# Altium integrated library Xilinx XC1700E.IntLib: 60 symbols (part 2 of 2)
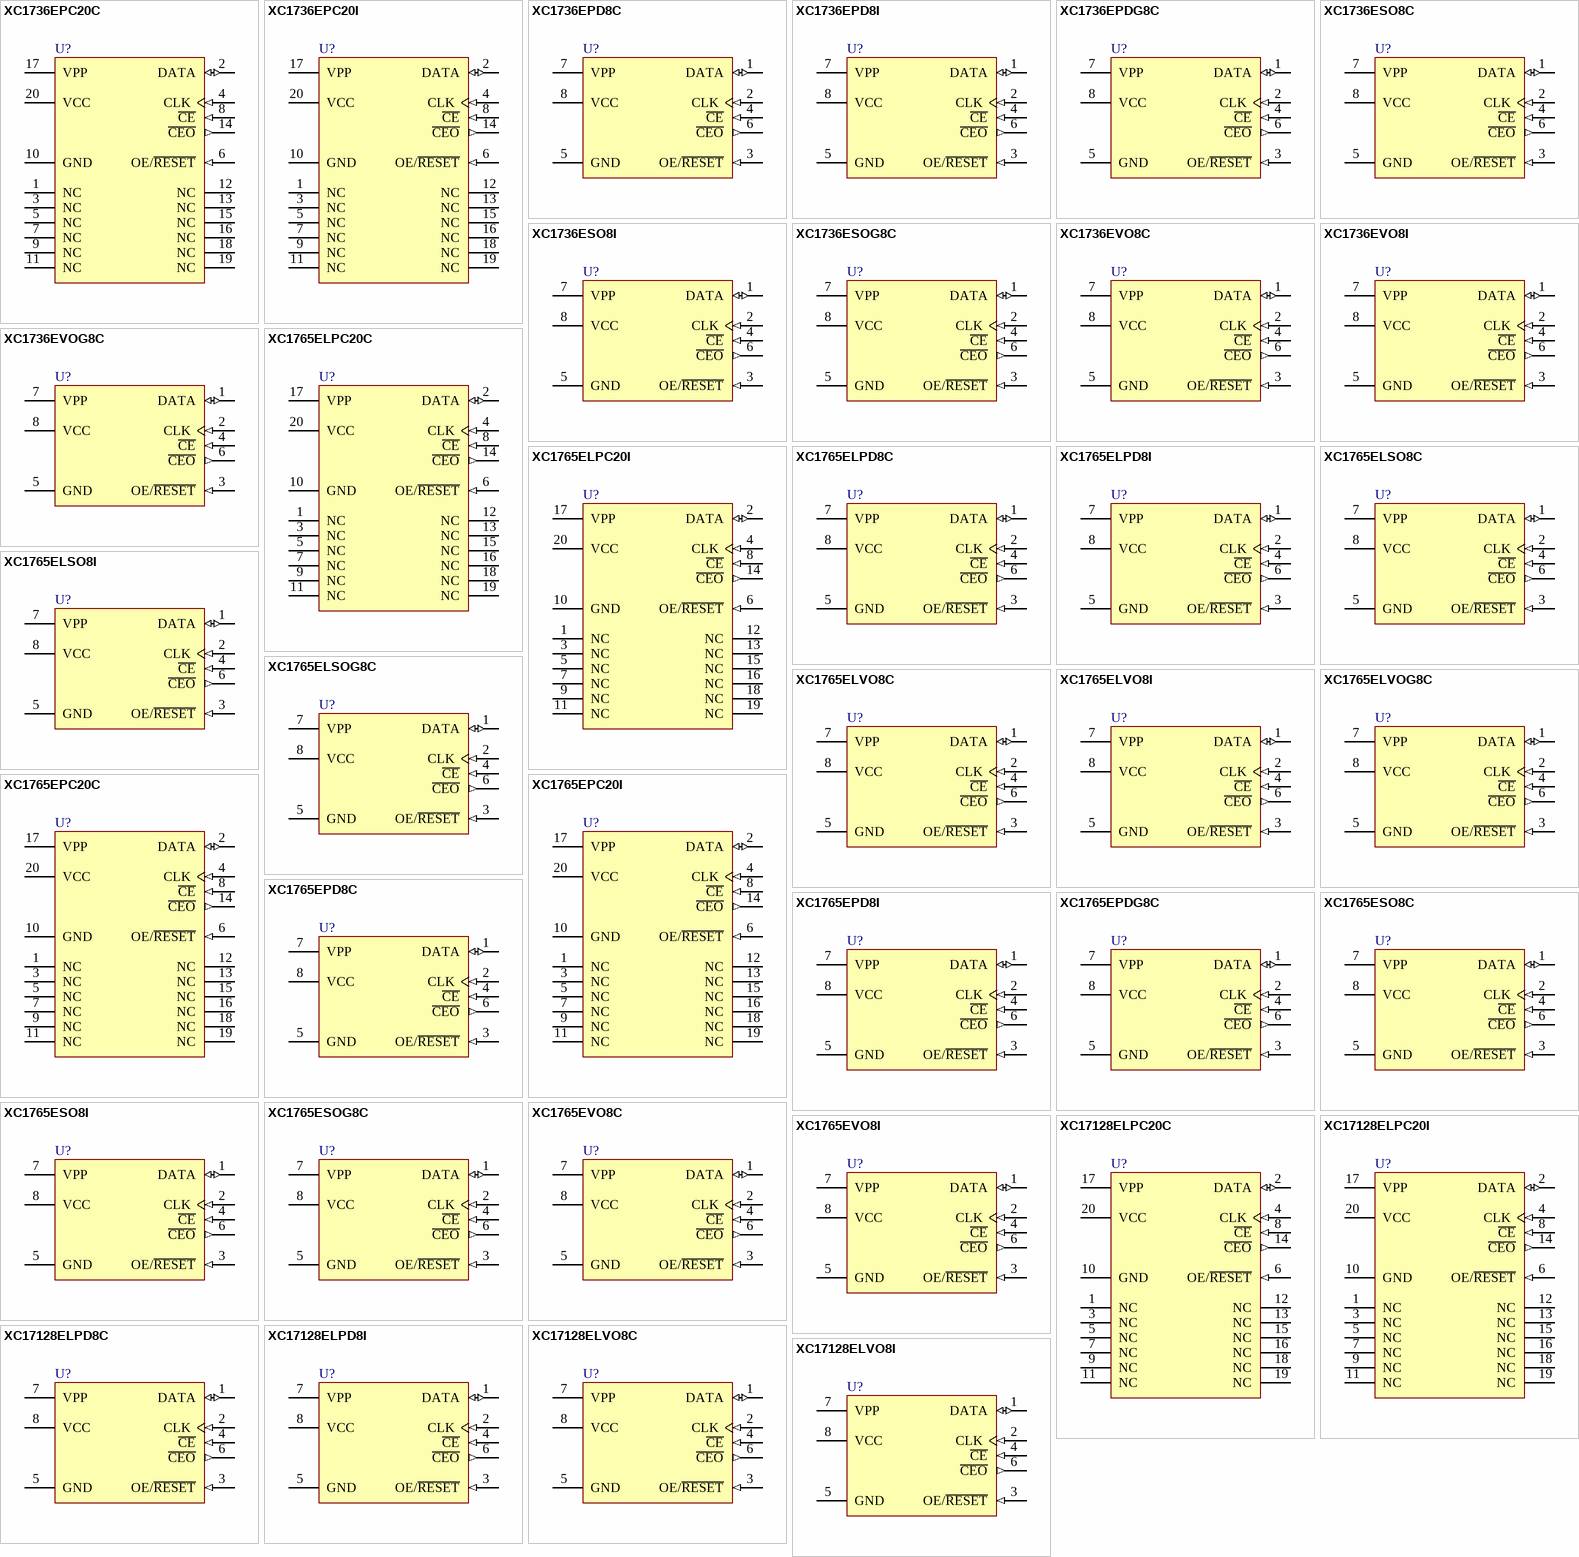
[diagram p2: symbols XC1736EPC20C to XC17128ELVO8I]

## XC17128ELPD8C
designator U?
XC1700EL Series, One-Time Programmable Configuration 3.3V PROM, 8-Pin PDIP, 128-Kilobit Density, Commercial Grade; DatasheetVersion: ver3.5, Jun-2008; PackageVersion: rev1.1, Apr-2001; PackageReference: PD8; PackageDescription: 8-Pin Plastic DIP (PD8); Code_JEDEC: MS-001-BA; ComponentLink1Description: Manufacturer URL; ComponentLink1URL: http://www.xilinx.com/; ComponentLink2Description: XC1700E/EL/L Series Datasheet; ComponentLink2URL: http://www.xilinx.com/support/documentation/data_sheets/ds027.pdf; ComponentLink3Description: PD8 Package Drawing; ComponentLink3URL: http://www.xilinx.com/support/documentation/package_specs/pd08.pdf; ComponentLink4Description: Configuration PROM Documents; ComponentLink4URL: http://www.xilinx.com/support/documentation/configuration_proms.htm
footprint PD8 (DIP, 8-Leads, Row Spacing 7.62mm, Pitch 2.54mm, Body 9.36x6.5mm)
pins: 1 DATA (io) "Data Output.", 2 CLK (in) "Clock input for internal address counter.", 3 OE/~{RESET} (in) "Output Enable/Reset.", 4 ~{CE} (in) "Chip Enable Input.", 5 GND (power) "Ground.", 6 ~{CEO} (out) "Chip Enable Output, connects to the CE input of the next PROM in the chain.", 7 VPP (power) "Programming Voltage.  Do not leave Vpp floating!", 8 VCC (power) "Positive Supply."

## XC17128ELPD8I
designator U?
XC1700EL Series, One-Time Programmable Configuration 3.3V PROM, 8-Pin PDIP, 128-Kilobit Density, Industrial Grade; DatasheetVersion: ver3.5, Jun-2008; PackageVersion: rev1.1, Apr-2001; PackageReference: PD8; PackageDescription: 8-Pin Plastic DIP (PD8); Code_JEDEC: MS-001-BA; ComponentLink1Description: Manufacturer URL; ComponentLink1URL: http://www.xilinx.com/; ComponentLink2Description: XC1700E/EL/L Series Datasheet; ComponentLink2URL: http://www.xilinx.com/support/documentation/data_sheets/ds027.pdf; ComponentLink3Description: PD8 Package Drawing; ComponentLink3URL: http://www.xilinx.com/support/documentation/package_specs/pd08.pdf; ComponentLink4Description: Configuration PROM Documents; ComponentLink4URL: http://www.xilinx.com/support/documentation/configuration_proms.htm
footprint PD8 (DIP, 8-Leads, Row Spacing 7.62mm, Pitch 2.54mm, Body 9.36x6.5mm)
pins: 1 DATA (io) "Data Output.", 2 CLK (in) "Clock input for internal address counter.", 3 OE/~{RESET} (in) "Output Enable/Reset.", 4 ~{CE} (in) "Chip Enable Input.", 5 GND (power) "Ground.", 6 ~{CEO} (out) "Chip Enable Output, connects to the CE input of the next PROM in the chain.", 7 VPP (power) "Programming Voltage.  Do not leave Vpp floating!", 8 VCC (power) "Positive Supply."

## XC17128ELVO8C
designator U?
XC1700EL Series, One-Time Programmable Configuration 3.3V PROM, 8-Pin TSOP, 128-Kilobit Density, Commercial Grade; DatasheetVersion: ver3.5, Jun-2008; PackageVersion: ver1.1, Apr-2001; PackageReference: VO8; PackageDescription: 8-Pin Thin Small Outline Package (VO8); ComponentLink1Description: Manufacturer URL; ComponentLink1URL: http://www.xilinx.com/; ComponentLink2Description: XC1700E/EL/L Series Datasheet; ComponentLink2URL: http://www.xilinx.com/support/documentation/data_sheets/ds027.pdf; ComponentLink3Description: VO8 Package Drawing; ComponentLink3URL: http://www.xilinx.com/support/documentation/package_specs/vo8.pdf; ComponentLink4Description: Configuration PROM Documents; ComponentLink4URL: http://www.xilinx.com/support/documentation/configuration_proms.htm
footprint VO8_N (SOIC, 8-Leads, Body 4.9x3.9mm, Pitch 1.27mm, IPC Medium Density)
footprint VO8_L (SOIC, 8-Leads, Body 4.9x3.9mm, Pitch 1.27mm, IPC High Density)
footprint VO8_M (SOIC, 8-Leads, Body 4.9x3.9mm, Pitch 1.27mm, IPC Low Density)
pins: 1 DATA (io) "Data Output.", 2 CLK (in) "Clock input for internal address counter.", 3 OE/~{RESET} (in) "Output Enable/Reset.", 4 ~{CE} (in) "Chip Enable Input.", 5 GND (power) "Ground.", 6 ~{CEO} (out) "Chip Enable Output, connects to the CE input of the next PROM in the chain.", 7 VPP (power) "Programming Voltage.  Do not leave Vpp floating!", 8 VCC (power) "Positive Supply."

## XC17128ELVO8I
designator U?
XC1700EL Series, One-Time Programmable Configuration 3.3V PROM, 8-Pin TSOP, 128-Kilobit Density, Industrial Grade; DatasheetVersion: ver3.5, Jun-2008; PackageVersion: ver1.1, Apr-2001; PackageReference: VO8; PackageDescription: 8-Pin Thin Small Outline Package (VO8); ComponentLink1Description: Manufacturer URL; ComponentLink1URL: http://www.xilinx.com/; ComponentLink2Description: XC1700E/EL/L Series Datasheet; ComponentLink2URL: http://www.xilinx.com/support/documentation/data_sheets/ds027.pdf; ComponentLink3Description: VO8 Package Drawing; ComponentLink3URL: http://www.xilinx.com/support/documentation/package_specs/vo8.pdf; ComponentLink4Description: Configuration PROM Documents; ComponentLink4URL: http://www.xilinx.com/support/documentation/configuration_proms.htm
footprint VO8_N (SOIC, 8-Leads, Body 4.9x3.9mm, Pitch 1.27mm, IPC Medium Density)
footprint VO8_L (SOIC, 8-Leads, Body 4.9x3.9mm, Pitch 1.27mm, IPC High Density)
footprint VO8_M (SOIC, 8-Leads, Body 4.9x3.9mm, Pitch 1.27mm, IPC Low Density)
pins: 1 DATA (io) "Data Output.", 2 CLK (in) "Clock input for internal address counter.", 3 OE/~{RESET} (in) "Output Enable/Reset.", 4 ~{CE} (in) "Chip Enable Input.", 5 GND (power) "Ground.", 6 ~{CEO} (out) "Chip Enable Output, connects to the CE input of the next PROM in the chain.", 7 VPP (power) "Programming Voltage.  Do not leave Vpp floating!", 8 VCC (power) "Positive Supply."

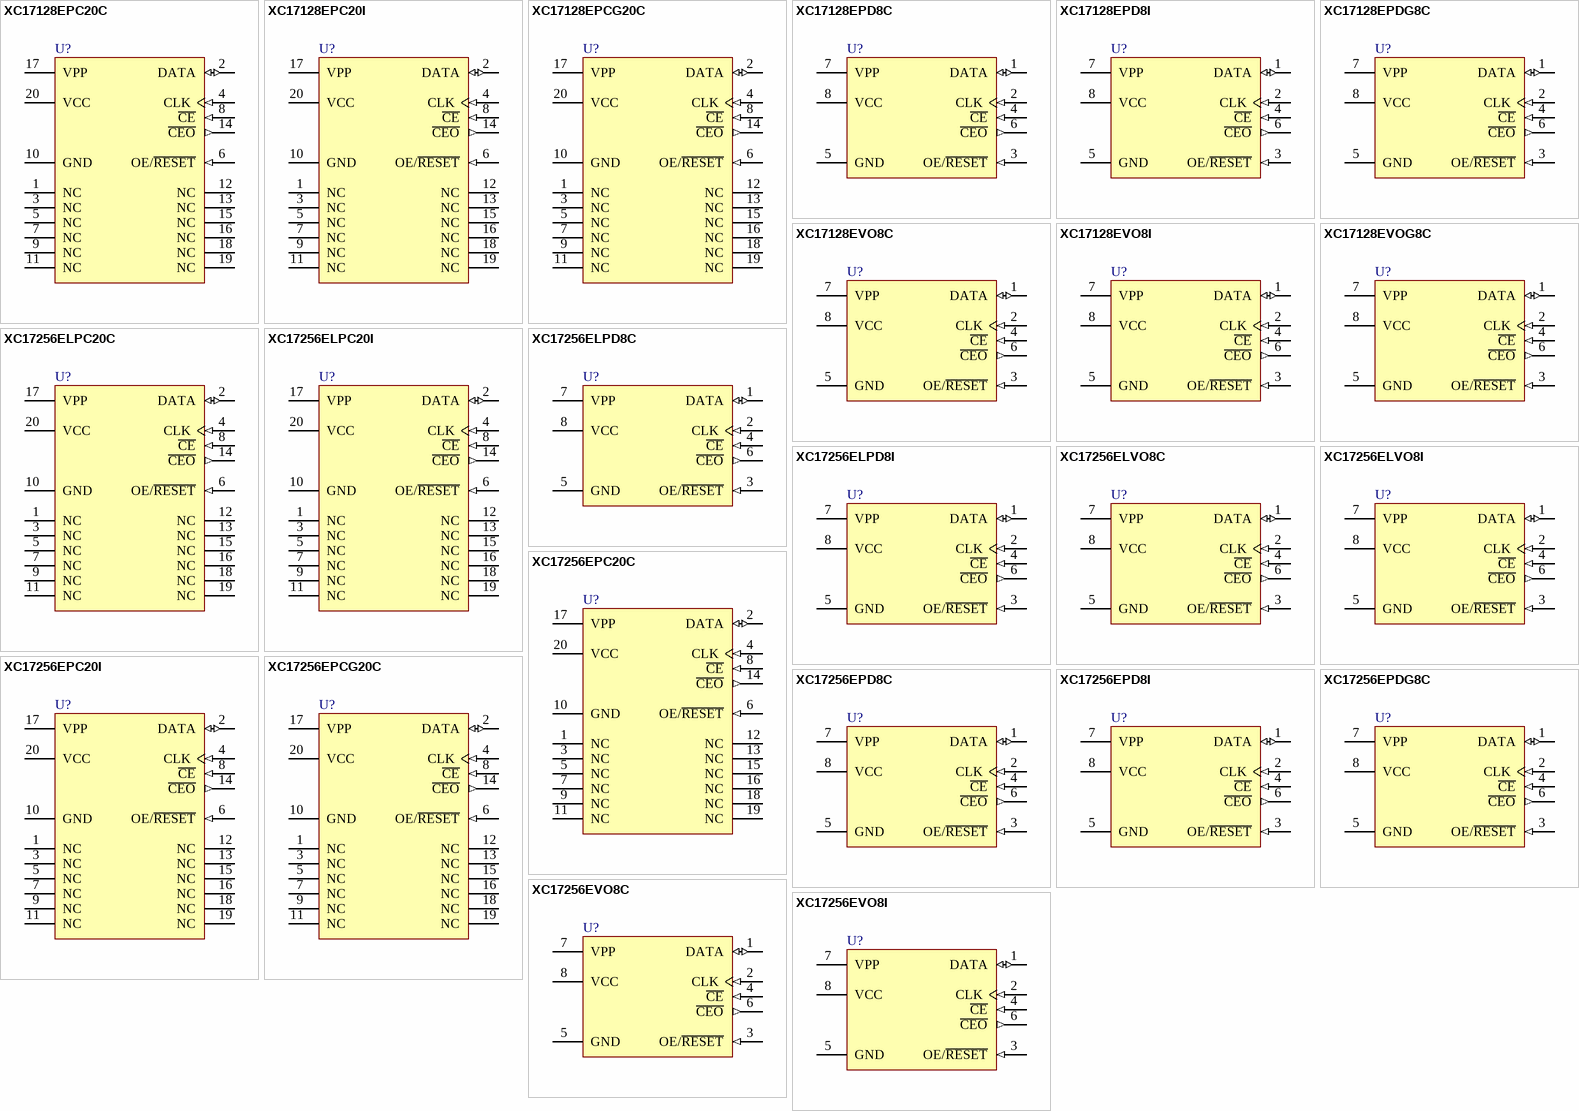
[diagram p1: symbols XC17128EPC20C to XC17256EVO8I]

## XC17128EPC20C
designator U?
XC1700E Series, One-Time Programmable Configuration 5V PROM, 20-Pin PLCC, 128-Kilobit Density, Commercial Grade; DatasheetVersion: ver3.5, Jun-2008; PackageVersion: ver1.2, Jun-2004; PackageReference: PC20; PackageDescription: 20-Pin Plastic Leaded Chip Carrier (PC20); Code_JEDEC: MS-047; Code_IPC: PLCC-20; ComponentLink1Description: Manufacturer URL; ComponentLink1URL: http://www.xilinx.com/; ComponentLink2Description: XC1700E/EL/L Series Datasheet; ComponentLink2URL: http://www.xilinx.com/support/documentation/data_sheets/ds027.pdf; ComponentLink3Description: PC20 Package Drawing; ComponentLink3URL: http://www.xilinx.com/support/documentation/package_specs/pc20.pdf; ComponentLink4Description: Configuration PROM Documents; ComponentLink4URL: http://www.xilinx.com/support/documentation/configuration_proms.htm
footprint PC20_N (Leaded Chip Carrier, 20-Leads, Body 9x9mm, Pitch 1.27mm, IPC Medium Density)
footprint PC20_L (Leaded Chip Carrier, 20-Leads, Body 9x9mm, Pitch 1.27mm, IPC High Density)
footprint PC20_M (Leaded Chip Carrier, 20-Leads, Body 9x9mm, Pitch 1.27mm, IPC Low Density)
pins: 1 NC "No Connection.", 2 DATA (io) "Data Output.", 3 NC "No Connection.", 4 CLK (in) "Clock input for internal address counter.", 5 NC "No Connection.", 6 OE/~{RESET} (in) "Output Enable/Reset.", 7 NC "No Connection.", 8 ~{CE} (in) "Chip Enable Input.", 9 NC "No Connection.", 10 GND (power) "Ground.", 11 NC "No Connection.", 12 NC "No Connection.", 13 NC "No Connection.", 14 ~{CEO} (out) "Chip Enable Output, connects to the CE input of the next PROM in the chain.", 15 NC "No Connection.", 16 NC "No Connection.", 17 VPP (power) "Programming Voltage.  Do not leave Vpp floating!", 18 NC "No Connection.", 19 NC "No Connection.", 20 VCC (power) "Positive Supply."

## XC17128EPC20I
designator U?
XC1700E Series, One-Time Programmable Configuration 5V PROM, 20-Pin PLCC, 128-Kilobit Density, Industrial Grade; DatasheetVersion: ver3.5, Jun-2008; PackageVersion: ver1.2, Jun-2004; PackageReference: PC20; PackageDescription: 20-Pin Plastic Leaded Chip Carrier (PC20); Code_JEDEC: MS-047; Code_IPC: PLCC-20; ComponentLink1Description: Manufacturer URL; ComponentLink1URL: http://www.xilinx.com/; ComponentLink2Description: XC1700E/EL/L Series Datasheet; ComponentLink2URL: http://www.xilinx.com/support/documentation/data_sheets/ds027.pdf; ComponentLink3Description: PC20 Package Drawing; ComponentLink3URL: http://www.xilinx.com/support/documentation/package_specs/pc20.pdf; ComponentLink4Description: Configuration PROM Documents; ComponentLink4URL: http://www.xilinx.com/support/documentation/configuration_proms.htm
footprint PC20_N (Leaded Chip Carrier, 20-Leads, Body 9x9mm, Pitch 1.27mm, IPC Medium Density)
footprint PC20_L (Leaded Chip Carrier, 20-Leads, Body 9x9mm, Pitch 1.27mm, IPC High Density)
footprint PC20_M (Leaded Chip Carrier, 20-Leads, Body 9x9mm, Pitch 1.27mm, IPC Low Density)
pins: 1 NC "No Connection.", 2 DATA (io) "Data Output.", 3 NC "No Connection.", 4 CLK (in) "Clock input for internal address counter.", 5 NC "No Connection.", 6 OE/~{RESET} (in) "Output Enable/Reset.", 7 NC "No Connection.", 8 ~{CE} (in) "Chip Enable Input.", 9 NC "No Connection.", 10 GND (power) "Ground.", 11 NC "No Connection.", 12 NC "No Connection.", 13 NC "No Connection.", 14 ~{CEO} (out) "Chip Enable Output, connects to the CE input of the next PROM in the chain.", 15 NC "No Connection.", 16 NC "No Connection.", 17 VPP (power) "Programming Voltage.  Do not leave Vpp floating!", 18 NC "No Connection.", 19 NC "No Connection.", 20 VCC (power) "Positive Supply."

## XC17128EPCG20C
designator U?
XC1700E Series, One-Time Programmable Configuration 5V PROM, 20-Pin PLCC, 128-Kilobit Density, Commercial Grade, Pb-Free; DatasheetVersion: ver3.5, Jun-2008; PackageVersion: ver1.2, Jun-2004; PackageReference: PCG20; PackageDescription: 20-Pin Plastic Leaded Chip Carrier (PCG20) - Pb-Free; Code_JEDEC: MS-047; Code_IPC: PLCC-20; ComponentLink1Description: Manufacturer URL; ComponentLink1URL: http://www.xilinx.com/; ComponentLink2Description: XC1700E/EL/L Series Datasheet; ComponentLink2URL: http://www.xilinx.com/support/documentation/data_sheets/ds027.pdf; ComponentLink3Description: PCG20 Package Drawing; ComponentLink3URL: http://www.xilinx.com/support/documentation/package_specs/pc20.pdf; ComponentLink4Description: Configuration PROM Documents; ComponentLink4URL: http://www.xilinx.com/support/documentation/configuration_proms.htm
footprint PCG20_N (Leaded Chip Carrier, 20-Leads, Body 9x9mm, Pitch 1.27mm, IPC Medium Density)
footprint PCG20_L (Leaded Chip Carrier, 20-Leads, Body 9x9mm, Pitch 1.27mm, IPC High Density)
footprint PCG20_M (Leaded Chip Carrier, 20-Leads, Body 9x9mm, Pitch 1.27mm, IPC Low Density)
pins: 1 NC "No Connection.", 2 DATA (io) "Data Output.", 3 NC "No Connection.", 4 CLK (in) "Clock input for internal address counter.", 5 NC "No Connection.", 6 OE/~{RESET} (in) "Output Enable/Reset.", 7 NC "No Connection.", 8 ~{CE} (in) "Chip Enable Input.", 9 NC "No Connection.", 10 GND (power) "Ground.", 11 NC "No Connection.", 12 NC "No Connection.", 13 NC "No Connection.", 14 ~{CEO} (out) "Chip Enable Output, connects to the CE input of the next PROM in the chain.", 15 NC "No Connection.", 16 NC "No Connection.", 17 VPP (power) "Programming Voltage.  Do not leave Vpp floating!", 18 NC "No Connection.", 19 NC "No Connection.", 20 VCC (power) "Positive Supply."

## XC17128EPD8C
designator U?
XC1700E Series, One-Time Programmable Configuration 5V PROM, 8-Pin PDIP, 128-Kilobit Density, Commercial Grade; DatasheetVersion: ver3.5, Jun-2008; PackageVersion: rev1.1, Apr-2001; PackageReference: PD8; PackageDescription: 8-Pin Plastic DIP (PD8); Code_JEDEC: MS-001-BA; ComponentLink1Description: Manufacturer URL; ComponentLink1URL: http://www.xilinx.com/; ComponentLink2Description: XC1700E/EL/L Series Datasheet; ComponentLink2URL: http://www.xilinx.com/support/documentation/data_sheets/ds027.pdf; ComponentLink3Description: PD8 Package Drawing; ComponentLink3URL: http://www.xilinx.com/support/documentation/package_specs/pd08.pdf; ComponentLink4Description: Configuration PROM Documents; ComponentLink4URL: http://www.xilinx.com/support/documentation/configuration_proms.htm
footprint PD8 (DIP, 8-Leads, Row Spacing 7.62mm, Pitch 2.54mm, Body 9.36x6.5mm)
pins: 1 DATA (io) "Data Output.", 2 CLK (in) "Clock input for internal address counter.", 3 OE/~{RESET} (in) "Output Enable/Reset.", 4 ~{CE} (in) "Chip Enable Input.", 5 GND (power) "Ground.", 6 ~{CEO} (out) "Chip Enable Output, connects to the CE input of the next PROM in the chain.", 7 VPP (power) "Programming Voltage.  Do not leave Vpp floating!", 8 VCC (power) "Positive Supply."

## XC17128EPD8I
designator U?
XC1700E Series, One-Time Programmable Configuration 5V PROM, 8-Pin PDIP, 128-Kilobit Density, Industrial Grade; DatasheetVersion: ver3.5, Jun-2008; PackageVersion: rev1.1, Apr-2001; PackageReference: PD8; PackageDescription: 8-Pin Plastic DIP (PD8); Code_JEDEC: MS-001-BA; ComponentLink1Description: Manufacturer URL; ComponentLink1URL: http://www.xilinx.com/; ComponentLink2Description: XC1700E/EL/L Series Datasheet; ComponentLink2URL: http://www.xilinx.com/support/documentation/data_sheets/ds027.pdf; ComponentLink3Description: PD8 Package Drawing; ComponentLink3URL: http://www.xilinx.com/support/documentation/package_specs/pd08.pdf; ComponentLink4Description: Configuration PROM Documents; ComponentLink4URL: http://www.xilinx.com/support/documentation/configuration_proms.htm
footprint PD8 (DIP, 8-Leads, Row Spacing 7.62mm, Pitch 2.54mm, Body 9.36x6.5mm)
pins: 1 DATA (io) "Data Output.", 2 CLK (in) "Clock input for internal address counter.", 3 OE/~{RESET} (in) "Output Enable/Reset.", 4 ~{CE} (in) "Chip Enable Input.", 5 GND (power) "Ground.", 6 ~{CEO} (out) "Chip Enable Output, connects to the CE input of the next PROM in the chain.", 7 VPP (power) "Programming Voltage.  Do not leave Vpp floating!", 8 VCC (power) "Positive Supply."

## XC17128EPDG8C
designator U?
XC1700E Series, One-Time Programmable Configuration 5V PROM, 8-Pin PDIP, 128-Kilobit Density, Commercial Grade, Pb-Free; DatasheetVersion: ver3.5, Jun-2008; PackageVersion: rev1.1, Apr-2001; PackageReference: PDG8; PackageDescription: 8-Pin Plastic DIP (PDG8), Pb-Free; Code_JEDEC: MS-001-BA; ComponentLink1Description: Manufacturer URL; ComponentLink1URL: http://www.xilinx.com/; ComponentLink2Description: XC1700E/EL/L Series Datasheet; ComponentLink2URL: http://www.xilinx.com/support/documentation/data_sheets/ds027.pdf; ComponentLink3Description: PDG8 Package Drawing; ComponentLink3URL: http://www.xilinx.com/support/documentation/package_specs/pd08.pdf; ComponentLink4Description: Configuration PROM Documents; ComponentLink4URL: http://www.xilinx.com/support/documentation/configuration_proms.htm
footprint PDG8 (DIP, 8-Leads, Row Spacing 7.62mm, Pitch 2.54mm, Body 9.36x6.5mm)
pins: 1 DATA (io) "Data Output.", 2 CLK (in) "Clock input for internal address counter.", 3 OE/~{RESET} (in) "Output Enable/Reset.", 4 ~{CE} (in) "Chip Enable Input.", 5 GND (power) "Ground.", 6 ~{CEO} (out) "Chip Enable Output, connects to the CE input of the next PROM in the chain.", 7 VPP (power) "Programming Voltage.  Do not leave Vpp floating!", 8 VCC (power) "Positive Supply."

## XC17128EVO8C
designator U?
XC1700E Series, One-Time Programmable Configuration 5V PROM, 8-Pin TSOP, 128-Kilobit Density, Commercial Grade; DatasheetVersion: ver3.5, Jun-2008; PackageVersion: ver1.1, Apr-2001; PackageReference: VO8; PackageDescription: 8-Pin Thin Small Outline Package (VO8); ComponentLink1Description: Manufacturer URL; ComponentLink1URL: http://www.xilinx.com/; ComponentLink2Description: XC1700E/EL/L Series Datasheet; ComponentLink2URL: http://www.xilinx.com/support/documentation/data_sheets/ds027.pdf; ComponentLink3Description: VO8 Package Drawing; ComponentLink3URL: http://www.xilinx.com/support/documentation/package_specs/vo8.pdf; ComponentLink4Description: Configuration PROM Documents; ComponentLink4URL: http://www.xilinx.com/support/documentation/configuration_proms.htm
footprint VO8_N (SOIC, 8-Leads, Body 4.9x3.9mm, Pitch 1.27mm, IPC Medium Density)
footprint VO8_L (SOIC, 8-Leads, Body 4.9x3.9mm, Pitch 1.27mm, IPC High Density)
footprint VO8_M (SOIC, 8-Leads, Body 4.9x3.9mm, Pitch 1.27mm, IPC Low Density)
pins: 1 DATA (io) "Data Output.", 2 CLK (in) "Clock input for internal address counter.", 3 OE/~{RESET} (in) "Output Enable/Reset.", 4 ~{CE} (in) "Chip Enable Input.", 5 GND (power) "Ground.", 6 ~{CEO} (out) "Chip Enable Output, connects to the CE input of the next PROM in the chain.", 7 VPP (power) "Programming Voltage.  Do not leave Vpp floating!", 8 VCC (power) "Positive Supply."

## XC17128EVO8I
designator U?
XC1700E Series, One-Time Programmable Configuration 5V PROM, 8-Pin TSOP, 128-Kilobit Density, Industrial Grade; DatasheetVersion: ver3.5, Jun-2008; PackageVersion: ver1.1, Apr-2001; PackageReference: VO8; PackageDescription: 8-Pin Thin Small Outline Package (VO8); ComponentLink1Description: Manufacturer URL; ComponentLink1URL: http://www.xilinx.com/; ComponentLink2Description: XC1700E/EL/L Series Datasheet; ComponentLink2URL: http://www.xilinx.com/support/documentation/data_sheets/ds027.pdf; ComponentLink3Description: VO8 Package Drawing; ComponentLink3URL: http://www.xilinx.com/support/documentation/package_specs/vo8.pdf; ComponentLink4Description: Configuration PROM Documents; ComponentLink4URL: http://www.xilinx.com/support/documentation/configuration_proms.htm
footprint VO8_N (SOIC, 8-Leads, Body 4.9x3.9mm, Pitch 1.27mm, IPC Medium Density)
footprint VO8_L (SOIC, 8-Leads, Body 4.9x3.9mm, Pitch 1.27mm, IPC High Density)
footprint VO8_M (SOIC, 8-Leads, Body 4.9x3.9mm, Pitch 1.27mm, IPC Low Density)
pins: 1 DATA (io) "Data Output.", 2 CLK (in) "Clock input for internal address counter.", 3 OE/~{RESET} (in) "Output Enable/Reset.", 4 ~{CE} (in) "Chip Enable Input.", 5 GND (power) "Ground.", 6 ~{CEO} (out) "Chip Enable Output, connects to the CE input of the next PROM in the chain.", 7 VPP (power) "Programming Voltage.  Do not leave Vpp floating!", 8 VCC (power) "Positive Supply."

## XC17128EVOG8C
designator U?
XC1700E Series, One-Time Programmable Configuration 5V PROM, 8-Pin TSOP, 128-Kilobit Density, Commercial Grade, Pb-Free; DatasheetVersion: ver3.5, Jun-2008; PackageVersion: ver1.1, Apr-2001; PackageReference: VOG8; PackageDescription: 8-Pin Thin Small Outline Package (VOG8) - Pb-Free; ComponentLink1Description: Manufacturer URL; ComponentLink1URL: http://www.xilinx.com/; ComponentLink2Description: XC1700E/EL/L Series Datasheet; ComponentLink2URL: http://www.xilinx.com/support/documentation/data_sheets/ds027.pdf; ComponentLink3Description: VOG8 Package Drawing; ComponentLink3URL: http://www.xilinx.com/support/documentation/package_specs/vo8.pdf; ComponentLink4Description: Configuration PROM Documents; ComponentLink4URL: http://www.xilinx.com/support/documentation/configuration_proms.htm
footprint VOG8_N (SOIC, 8-Leads, Body 4.9x3.9mm, Pitch 1.27mm, IPC Medium Density)
footprint VOG8_L (SOIC, 8-Leads, Body 4.9x3.9mm, Pitch 1.27mm, IPC High Density)
footprint VOG8_M (SOIC, 8-Leads, Body 4.9x3.9mm, Pitch 1.27mm, IPC Low Density)
pins: 1 DATA (io) "Data Output.", 2 CLK (in) "Clock input for internal address counter.", 3 OE/~{RESET} (in) "Output Enable/Reset.", 4 ~{CE} (in) "Chip Enable Input.", 5 GND (power) "Ground.", 6 ~{CEO} (out) "Chip Enable Output, connects to the CE input of the next PROM in the chain.", 7 VPP (power) "Programming Voltage.  Do not leave Vpp floating!", 8 VCC (power) "Positive Supply."

## XC17256ELPC20C
designator U?
XC1700EL Series, One-Time Programmable Configuration 3.3V PROM, 20-Pin PLCC, 256-Kilobit Density, Commercial Grade; DatasheetVersion: ver3.5, Jun-2008; PackageVersion: ver1.2, Jun-2004; PackageReference: PC20; PackageDescription: 20-Pin Plastic Leaded Chip Carrier (PC20); Code_JEDEC: MS-047; Code_IPC: PLCC-20; ComponentLink1Description: Manufacturer URL; ComponentLink1URL: http://www.xilinx.com/; ComponentLink2Description: XC1700E/EL/L Series Datasheet; ComponentLink2URL: http://www.xilinx.com/support/documentation/data_sheets/ds027.pdf; ComponentLink3Description: PC20 Package Drawing; ComponentLink3URL: http://www.xilinx.com/support/documentation/package_specs/pc20.pdf; ComponentLink4Description: Configuration PROM Documents; ComponentLink4URL: http://www.xilinx.com/support/documentation/configuration_proms.htm
footprint PC20_N (Leaded Chip Carrier, 20-Leads, Body 9x9mm, Pitch 1.27mm, IPC Medium Density)
footprint PC20_L (Leaded Chip Carrier, 20-Leads, Body 9x9mm, Pitch 1.27mm, IPC High Density)
footprint PC20_M (Leaded Chip Carrier, 20-Leads, Body 9x9mm, Pitch 1.27mm, IPC Low Density)
pins: 1 NC "No Connection.", 2 DATA (io) "Data Output.", 3 NC "No Connection.", 4 CLK (in) "Clock input for internal address counter.", 5 NC "No Connection.", 6 OE/~{RESET} (in) "Output Enable/Reset.", 7 NC "No Connection.", 8 ~{CE} (in) "Chip Enable Input.", 9 NC "No Connection.", 10 GND (power) "Ground.", 11 NC "No Connection.", 12 NC "No Connection.", 13 NC "No Connection.", 14 ~{CEO} (out) "Chip Enable Output, connects to the CE input of the next PROM in the chain.", 15 NC "No Connection.", 16 NC "No Connection.", 17 VPP (power) "Programming Voltage.  Do not leave Vpp floating!", 18 NC "No Connection.", 19 NC "No Connection.", 20 VCC (power) "Positive Supply."

## XC17256ELPC20I
designator U?
XC1700EL Series, One-Time Programmable Configuration 3.3V PROM, 20-Pin PLCC, 256-Kilobit Density, Industrial Grade; DatasheetVersion: ver3.5, Jun-2008; PackageVersion: ver1.2, Jun-2004; PackageReference: PC20; PackageDescription: 20-Pin Plastic Leaded Chip Carrier (PC20); Code_JEDEC: MS-047; Code_IPC: PLCC-20; ComponentLink1Description: Manufacturer URL; ComponentLink1URL: http://www.xilinx.com/; ComponentLink2Description: XC1700E/EL/L Series Datasheet; ComponentLink2URL: http://www.xilinx.com/support/documentation/data_sheets/ds027.pdf; ComponentLink3Description: PC20 Package Drawing; ComponentLink3URL: http://www.xilinx.com/support/documentation/package_specs/pc20.pdf; ComponentLink4Description: Configuration PROM Documents; ComponentLink4URL: http://www.xilinx.com/support/documentation/configuration_proms.htm
footprint PC20_N (Leaded Chip Carrier, 20-Leads, Body 9x9mm, Pitch 1.27mm, IPC Medium Density)
footprint PC20_L (Leaded Chip Carrier, 20-Leads, Body 9x9mm, Pitch 1.27mm, IPC High Density)
footprint PC20_M (Leaded Chip Carrier, 20-Leads, Body 9x9mm, Pitch 1.27mm, IPC Low Density)
pins: 1 NC "No Connection.", 2 DATA (io) "Data Output.", 3 NC "No Connection.", 4 CLK (in) "Clock input for internal address counter.", 5 NC "No Connection.", 6 OE/~{RESET} (in) "Output Enable/Reset.", 7 NC "No Connection.", 8 ~{CE} (in) "Chip Enable Input.", 9 NC "No Connection.", 10 GND (power) "Ground.", 11 NC "No Connection.", 12 NC "No Connection.", 13 NC "No Connection.", 14 ~{CEO} (out) "Chip Enable Output, connects to the CE input of the next PROM in the chain.", 15 NC "No Connection.", 16 NC "No Connection.", 17 VPP (power) "Programming Voltage.  Do not leave Vpp floating!", 18 NC "No Connection.", 19 NC "No Connection.", 20 VCC (power) "Positive Supply."

## XC17256ELPD8C
designator U?
XC1700EL Series, One-Time Programmable Configuration 3.3V PROM, 8-Pin PDIP, 256-Kilobit Density, Commercial Grade; DatasheetVersion: ver3.5, Jun-2008; PackageVersion: rev1.1, Apr-2001; PackageReference: PD8; PackageDescription: 8-Pin Plastic DIP (PD8); Code_JEDEC: MS-001-BA; ComponentLink1Description: Manufacturer URL; ComponentLink1URL: http://www.xilinx.com/; ComponentLink2Description: XC1700E/EL/L Series Datasheet; ComponentLink2URL: http://www.xilinx.com/support/documentation/data_sheets/ds027.pdf; ComponentLink3Description: PD8 Package Drawing; ComponentLink3URL: http://www.xilinx.com/support/documentation/package_specs/pd08.pdf; ComponentLink4Description: Configuration PROM Documents; ComponentLink4URL: http://www.xilinx.com/support/documentation/configuration_proms.htm
footprint PD8 (DIP, 8-Leads, Row Spacing 7.62mm, Pitch 2.54mm, Body 9.36x6.5mm)
pins: 1 DATA (io) "Data Output.", 2 CLK (in) "Clock input for internal address counter.", 3 OE/~{RESET} (in) "Output Enable/Reset.", 4 ~{CE} (in) "Chip Enable Input.", 5 GND (power) "Ground.", 6 ~{CEO} (out) "Chip Enable Output, connects to the CE input of the next PROM in the chain.", 7 VPP (power) "Programming Voltage.  Do not leave Vpp floating!", 8 VCC (power) "Positive Supply."

## XC17256ELPD8I
designator U?
XC1700EL Series, One-Time Programmable Configuration 3.3V PROM, 8-Pin PDIP, 256-Kilobit Density, Industrial Grade; DatasheetVersion: ver3.5, Jun-2008; PackageVersion: rev1.1, Apr-2001; PackageReference: PD8; PackageDescription: 8-Pin Plastic DIP (PD8); Code_JEDEC: MS-001-BA; ComponentLink1Description: Manufacturer URL; ComponentLink1URL: http://www.xilinx.com/; ComponentLink2Description: XC1700E/EL/L Series Datasheet; ComponentLink2URL: http://www.xilinx.com/support/documentation/data_sheets/ds027.pdf; ComponentLink3Description: PD8 Package Drawing; ComponentLink3URL: http://www.xilinx.com/support/documentation/package_specs/pd08.pdf; ComponentLink4Description: Configuration PROM Documents; ComponentLink4URL: http://www.xilinx.com/support/documentation/configuration_proms.htm
footprint PD8 (DIP, 8-Leads, Row Spacing 7.62mm, Pitch 2.54mm, Body 9.36x6.5mm)
pins: 1 DATA (io) "Data Output.", 2 CLK (in) "Clock input for internal address counter.", 3 OE/~{RESET} (in) "Output Enable/Reset.", 4 ~{CE} (in) "Chip Enable Input.", 5 GND (power) "Ground.", 6 ~{CEO} (out) "Chip Enable Output, connects to the CE input of the next PROM in the chain.", 7 VPP (power) "Programming Voltage.  Do not leave Vpp floating!", 8 VCC (power) "Positive Supply."

## XC17256ELVO8C
designator U?
XC1700EL Series, One-Time Programmable Configuration 3.3V PROM, 8-Pin TSOP, 256-Kilobit Density, Commercial Grade; DatasheetVersion: ver3.5, Jun-2008; PackageVersion: ver1.1, Apr-2001; PackageReference: VO8; PackageDescription: 8-Pin Thin Small Outline Package (VO8); ComponentLink1Description: Manufacturer URL; ComponentLink1URL: http://www.xilinx.com/; ComponentLink2Description: XC1700E/EL/L Series Datasheet; ComponentLink2URL: http://www.xilinx.com/support/documentation/data_sheets/ds027.pdf; ComponentLink3Description: VO8 Package Drawing; ComponentLink3URL: http://www.xilinx.com/support/documentation/package_specs/vo8.pdf; ComponentLink4Description: Configuration PROM Documents; ComponentLink4URL: http://www.xilinx.com/support/documentation/configuration_proms.htm
footprint VO8_N (SOIC, 8-Leads, Body 4.9x3.9mm, Pitch 1.27mm, IPC Medium Density)
footprint VO8_L (SOIC, 8-Leads, Body 4.9x3.9mm, Pitch 1.27mm, IPC High Density)
footprint VO8_M (SOIC, 8-Leads, Body 4.9x3.9mm, Pitch 1.27mm, IPC Low Density)
pins: 1 DATA (io) "Data Output.", 2 CLK (in) "Clock input for internal address counter.", 3 OE/~{RESET} (in) "Output Enable/Reset.", 4 ~{CE} (in) "Chip Enable Input.", 5 GND (power) "Ground.", 6 ~{CEO} (out) "Chip Enable Output, connects to the CE input of the next PROM in the chain.", 7 VPP (power) "Programming Voltage.  Do not leave Vpp floating!", 8 VCC (power) "Positive Supply."

## XC17256ELVO8I
designator U?
XC1700EL Series, One-Time Programmable Configuration 3.3V PROM, 8-Pin TSOP, 256-Kilobit Density, Industrial Grade; DatasheetVersion: ver3.5, Jun-2008; PackageVersion: ver1.1, Apr-2001; PackageReference: VO8; PackageDescription: 8-Pin Thin Small Outline Package (VO8); ComponentLink1Description: Manufacturer URL; ComponentLink1URL: http://www.xilinx.com/; ComponentLink2Description: XC1700E/EL/L Series Datasheet; ComponentLink2URL: http://www.xilinx.com/support/documentation/data_sheets/ds027.pdf; ComponentLink3Description: VO8 Package Drawing; ComponentLink3URL: http://www.xilinx.com/support/documentation/package_specs/vo8.pdf; ComponentLink4Description: Configuration PROM Documents; ComponentLink4URL: http://www.xilinx.com/support/documentation/configuration_proms.htm
footprint VO8_N (SOIC, 8-Leads, Body 4.9x3.9mm, Pitch 1.27mm, IPC Medium Density)
footprint VO8_L (SOIC, 8-Leads, Body 4.9x3.9mm, Pitch 1.27mm, IPC High Density)
footprint VO8_M (SOIC, 8-Leads, Body 4.9x3.9mm, Pitch 1.27mm, IPC Low Density)
pins: 1 DATA (io) "Data Output.", 2 CLK (in) "Clock input for internal address counter.", 3 OE/~{RESET} (in) "Output Enable/Reset.", 4 ~{CE} (in) "Chip Enable Input.", 5 GND (power) "Ground.", 6 ~{CEO} (out) "Chip Enable Output, connects to the CE input of the next PROM in the chain.", 7 VPP (power) "Programming Voltage.  Do not leave Vpp floating!", 8 VCC (power) "Positive Supply."

## XC17256EPC20C
designator U?
XC1700E Series, One-Time Programmable Configuration 5V PROM, 20-Pin PLCC, 256-Kilobit Density, Commercial Grade; DatasheetVersion: ver3.5, Jun-2008; PackageVersion: ver1.2, Jun-2004; PackageReference: PC20; PackageDescription: 20-Pin Plastic Leaded Chip Carrier (PC20); Code_JEDEC: MS-047; Code_IPC: PLCC-20; ComponentLink1Description: Manufacturer URL; ComponentLink1URL: http://www.xilinx.com/; ComponentLink2Description: XC1700E/EL/L Series Datasheet; ComponentLink2URL: http://www.xilinx.com/support/documentation/data_sheets/ds027.pdf; ComponentLink3Description: PC20 Package Drawing; ComponentLink3URL: http://www.xilinx.com/support/documentation/package_specs/pc20.pdf; ComponentLink4Description: Configuration PROM Documents; ComponentLink4URL: http://www.xilinx.com/support/documentation/configuration_proms.htm
footprint PC20_N (Leaded Chip Carrier, 20-Leads, Body 9x9mm, Pitch 1.27mm, IPC Medium Density)
footprint PC20_L (Leaded Chip Carrier, 20-Leads, Body 9x9mm, Pitch 1.27mm, IPC High Density)
footprint PC20_M (Leaded Chip Carrier, 20-Leads, Body 9x9mm, Pitch 1.27mm, IPC Low Density)
pins: 1 NC "No Connection.", 2 DATA (io) "Data Output.", 3 NC "No Connection.", 4 CLK (in) "Clock input for internal address counter.", 5 NC "No Connection.", 6 OE/~{RESET} (in) "Output Enable/Reset.", 7 NC "No Connection.", 8 ~{CE} (in) "Chip Enable Input.", 9 NC "No Connection.", 10 GND (power) "Ground.", 11 NC "No Connection.", 12 NC "No Connection.", 13 NC "No Connection.", 14 ~{CEO} (out) "Chip Enable Output, connects to the CE input of the next PROM in the chain.", 15 NC "No Connection.", 16 NC "No Connection.", 17 VPP (power) "Programming Voltage.  Do not leave Vpp floating!", 18 NC "No Connection.", 19 NC "No Connection.", 20 VCC (power) "Positive Supply."

## XC17256EPC20I
designator U?
XC1700E Series, One-Time Programmable Configuration 5V PROM, 20-Pin PLCC, 256-Kilobit Density, Industrial Grade; DatasheetVersion: ver3.5, Jun-2008; PackageVersion: ver1.2, Jun-2004; PackageReference: PC20; PackageDescription: 20-Pin Plastic Leaded Chip Carrier (PC20); Code_JEDEC: MS-047; Code_IPC: PLCC-20; ComponentLink1Description: Manufacturer URL; ComponentLink1URL: http://www.xilinx.com/; ComponentLink2Description: XC1700E/EL/L Series Datasheet; ComponentLink2URL: http://www.xilinx.com/support/documentation/data_sheets/ds027.pdf; ComponentLink3Description: PC20 Package Drawing; ComponentLink3URL: http://www.xilinx.com/support/documentation/package_specs/pc20.pdf; ComponentLink4Description: Configuration PROM Documents; ComponentLink4URL: http://www.xilinx.com/support/documentation/configuration_proms.htm
footprint PC20_N (Leaded Chip Carrier, 20-Leads, Body 9x9mm, Pitch 1.27mm, IPC Medium Density)
footprint PC20_L (Leaded Chip Carrier, 20-Leads, Body 9x9mm, Pitch 1.27mm, IPC High Density)
footprint PC20_M (Leaded Chip Carrier, 20-Leads, Body 9x9mm, Pitch 1.27mm, IPC Low Density)
pins: 1 NC "No Connection.", 2 DATA (io) "Data Output.", 3 NC "No Connection.", 4 CLK (in) "Clock input for internal address counter.", 5 NC "No Connection.", 6 OE/~{RESET} (in) "Output Enable/Reset.", 7 NC "No Connection.", 8 ~{CE} (in) "Chip Enable Input.", 9 NC "No Connection.", 10 GND (power) "Ground.", 11 NC "No Connection.", 12 NC "No Connection.", 13 NC "No Connection.", 14 ~{CEO} (out) "Chip Enable Output, connects to the CE input of the next PROM in the chain.", 15 NC "No Connection.", 16 NC "No Connection.", 17 VPP (power) "Programming Voltage.  Do not leave Vpp floating!", 18 NC "No Connection.", 19 NC "No Connection.", 20 VCC (power) "Positive Supply."

## XC17256EPCG20C
designator U?
XC1700E Series, One-Time Programmable Configuration 5V PROM, 28-Pin PLCC, 256-Kilobit Density, Commercial Grade, Pb-Free; DatasheetVersion: ver3.5, Jun-2008; PackageVersion: ver1.2, Jun-2004; PackageReference: PCG20; PackageDescription: 20-Pin Plastic Leaded Chip Carrier (PCG20) - Pb-Free; Code_JEDEC: MS-047; Code_IPC: PLCC-20; ComponentLink1Description: Manufacturer URL; ComponentLink1URL: http://www.xilinx.com/; ComponentLink2Description: XC1700E/EL/L Series Datasheet; ComponentLink2URL: http://www.xilinx.com/support/documentation/data_sheets/ds027.pdf; ComponentLink3Description: PCG20 Package Drawing; ComponentLink3URL: http://www.xilinx.com/support/documentation/package_specs/pc20.pdf; ComponentLink4Description: Configuration PROM Documents; ComponentLink4URL: http://www.xilinx.com/support/documentation/configuration_proms.htm
footprint PCG20_N (Leaded Chip Carrier, 20-Leads, Body 9x9mm, Pitch 1.27mm, IPC Medium Density)
footprint PCG20_L (Leaded Chip Carrier, 20-Leads, Body 9x9mm, Pitch 1.27mm, IPC High Density)
footprint PCG20_M (Leaded Chip Carrier, 20-Leads, Body 9x9mm, Pitch 1.27mm, IPC Low Density)
pins: 1 NC "No Connection.", 2 DATA (io) "Data Output.", 3 NC "No Connection.", 4 CLK (in) "Clock input for internal address counter.", 5 NC "No Connection.", 6 OE/~{RESET} (in) "Output Enable/Reset.", 7 NC "No Connection.", 8 ~{CE} (in) "Chip Enable Input.", 9 NC "No Connection.", 10 GND (power) "Ground.", 11 NC "No Connection.", 12 NC "No Connection.", 13 NC "No Connection.", 14 ~{CEO} (out) "Chip Enable Output, connects to the CE input of the next PROM in the chain.", 15 NC "No Connection.", 16 NC "No Connection.", 17 VPP (power) "Programming Voltage.  Do not leave Vpp floating!", 18 NC "No Connection.", 19 NC "No Connection.", 20 VCC (power) "Positive Supply."

## XC17256EPD8C
designator U?
XC1700E Series, One-Time Programmable Configuration 5V PROM, 8-Pin PDIP, 256-Kilobit Density, Commercial Grade; DatasheetVersion: ver3.5, Jun-2008; PackageVersion: rev1.1, Apr-2001; PackageReference: PD8; PackageDescription: 8-Pin Plastic DIP (PD8); Code_JEDEC: MS-001-BA; ComponentLink1Description: Manufacturer URL; ComponentLink1URL: http://www.xilinx.com/; ComponentLink2Description: XC1700E/EL/L Series Datasheet; ComponentLink2URL: http://www.xilinx.com/support/documentation/data_sheets/ds027.pdf; ComponentLink3Description: PD8 Package Drawing; ComponentLink3URL: http://www.xilinx.com/support/documentation/package_specs/pd08.pdf; ComponentLink4Description: Configuration PROM Documents; ComponentLink4URL: http://www.xilinx.com/support/documentation/configuration_proms.htm
footprint PD8 (DIP, 8-Leads, Row Spacing 7.62mm, Pitch 2.54mm, Body 9.36x6.5mm)
pins: 1 DATA (io) "Data Output.", 2 CLK (in) "Clock input for internal address counter.", 3 OE/~{RESET} (in) "Output Enable/Reset.", 4 ~{CE} (in) "Chip Enable Input.", 5 GND (power) "Ground.", 6 ~{CEO} (out) "Chip Enable Output, connects to the CE input of the next PROM in the chain.", 7 VPP (power) "Programming Voltage.  Do not leave Vpp floating!", 8 VCC (power) "Positive Supply."

## XC17256EPD8I
designator U?
XC1700E Series, One-Time Programmable Configuration 5V PROM, 8-Pin PDIP, 256-Kilobit Density, Industrial Grade; DatasheetVersion: ver3.5, Jun-2008; PackageVersion: rev1.1, Apr-2001; PackageReference: PD8; PackageDescription: 8-Pin Plastic DIP (PD8); Code_JEDEC: MS-001-BA; ComponentLink1Description: Manufacturer URL; ComponentLink1URL: http://www.xilinx.com/; ComponentLink2Description: XC1700E/EL/L Series Datasheet; ComponentLink2URL: http://www.xilinx.com/support/documentation/data_sheets/ds027.pdf; ComponentLink3Description: PD8 Package Drawing; ComponentLink3URL: http://www.xilinx.com/support/documentation/package_specs/pd08.pdf; ComponentLink4Description: Configuration PROM Documents; ComponentLink4URL: http://www.xilinx.com/support/documentation/configuration_proms.htm
footprint PD8 (DIP, 8-Leads, Row Spacing 7.62mm, Pitch 2.54mm, Body 9.36x6.5mm)
pins: 1 DATA (io) "Data Output.", 2 CLK (in) "Clock input for internal address counter.", 3 OE/~{RESET} (in) "Output Enable/Reset.", 4 ~{CE} (in) "Chip Enable Input.", 5 GND (power) "Ground.", 6 ~{CEO} (out) "Chip Enable Output, connects to the CE input of the next PROM in the chain.", 7 VPP (power) "Programming Voltage.  Do not leave Vpp floating!", 8 VCC (power) "Positive Supply."

## XC17256EPDG8C
designator U?
XC1700E Series, One-Time Programmable Configuration 5V PROM, 8-Pin PDIP, 256-Kilobit Density, Commercial Grade, Pb-Free; DatasheetVersion: ver3.5, Jun-2008; PackageVersion: rev1.1, Apr-2001; PackageReference: PDG8; PackageDescription: 8-Pin Plastic DIP (PDG8), Pb-Free; Code_JEDEC: MS-001-BA; ComponentLink1Description: Manufacturer URL; ComponentLink1URL: http://www.xilinx.com/; ComponentLink2Description: XC1700E/EL/L Series Datasheet; ComponentLink2URL: http://www.xilinx.com/support/documentation/data_sheets/ds027.pdf; ComponentLink3Description: PDG8 Package Drawing; ComponentLink3URL: http://www.xilinx.com/support/documentation/package_specs/pd08.pdf; ComponentLink4Description: Configuration PROM Documents; ComponentLink4URL: http://www.xilinx.com/support/documentation/configuration_proms.htm
footprint PDG8 (DIP, 8-Leads, Row Spacing 7.62mm, Pitch 2.54mm, Body 9.36x6.5mm)
pins: 1 DATA (io) "Data Output.", 2 CLK (in) "Clock input for internal address counter.", 3 OE/~{RESET} (in) "Output Enable/Reset.", 4 ~{CE} (in) "Chip Enable Input.", 5 GND (power) "Ground.", 6 ~{CEO} (out) "Chip Enable Output, connects to the CE input of the next PROM in the chain.", 7 VPP (power) "Programming Voltage.  Do not leave Vpp floating!", 8 VCC (power) "Positive Supply."

## XC17256EVO8C
designator U?
XC1700E Series, One-Time Programmable Configuration 5V PROM, 8-Pin TSOP, 256-Kilobit Density, Commercial Grade; DatasheetVersion: ver3.5, Jun-2008; PackageVersion: ver1.1, Apr-2001; PackageReference: VO8; PackageDescription: 8-Pin Thin Small Outline Package (VO8); ComponentLink1Description: Manufacturer URL; ComponentLink1URL: http://www.xilinx.com/; ComponentLink2Description: XC1700E/EL/L Series Datasheet; ComponentLink2URL: http://www.xilinx.com/support/documentation/data_sheets/ds027.pdf; ComponentLink3Description: VO8 Package Drawing; ComponentLink3URL: http://www.xilinx.com/support/documentation/package_specs/vo8.pdf; ComponentLink4Description: Configuration PROM Documents; ComponentLink4URL: http://www.xilinx.com/support/documentation/configuration_proms.htm
footprint VO8_N (SOIC, 8-Leads, Body 4.9x3.9mm, Pitch 1.27mm, IPC Medium Density)
footprint VO8_L (SOIC, 8-Leads, Body 4.9x3.9mm, Pitch 1.27mm, IPC High Density)
footprint VO8_M (SOIC, 8-Leads, Body 4.9x3.9mm, Pitch 1.27mm, IPC Low Density)
pins: 1 DATA (io) "Data Output.", 2 CLK (in) "Clock input for internal address counter.", 3 OE/~{RESET} (in) "Output Enable/Reset.", 4 ~{CE} (in) "Chip Enable Input.", 5 GND (power) "Ground.", 6 ~{CEO} (out) "Chip Enable Output, connects to the CE input of the next PROM in the chain.", 7 VPP (power) "Programming Voltage.  Do not leave Vpp floating!", 8 VCC (power) "Positive Supply."

## XC17256EVO8I
designator U?
XC1700E Series, One-Time Programmable Configuration 5V PROM, 8-Pin TSOP, 256-Kilobit Density, Industrial Grade; DatasheetVersion: ver3.5, Jun-2008; PackageVersion: ver1.1, Apr-2001; PackageReference: VO8; PackageDescription: 8-Pin Thin Small Outline Package (VO8); ComponentLink1Description: Manufacturer URL; ComponentLink1URL: http://www.xilinx.com/; ComponentLink2Description: XC1700E/EL/L Series Datasheet; ComponentLink2URL: http://www.xilinx.com/support/documentation/data_sheets/ds027.pdf; ComponentLink3Description: VO8 Package Drawing; ComponentLink3URL: http://www.xilinx.com/support/documentation/package_specs/vo8.pdf; ComponentLink4Description: Configuration PROM Documents; ComponentLink4URL: http://www.xilinx.com/support/documentation/configuration_proms.htm
footprint VO8_N (SOIC, 8-Leads, Body 4.9x3.9mm, Pitch 1.27mm, IPC Medium Density)
footprint VO8_L (SOIC, 8-Leads, Body 4.9x3.9mm, Pitch 1.27mm, IPC High Density)
footprint VO8_M (SOIC, 8-Leads, Body 4.9x3.9mm, Pitch 1.27mm, IPC Low Density)
pins: 1 DATA (io) "Data Output.", 2 CLK (in) "Clock input for internal address counter.", 3 OE/~{RESET} (in) "Output Enable/Reset.", 4 ~{CE} (in) "Chip Enable Input.", 5 GND (power) "Ground.", 6 ~{CEO} (out) "Chip Enable Output, connects to the CE input of the next PROM in the chain.", 7 VPP (power) "Programming Voltage.  Do not leave Vpp floating!", 8 VCC (power) "Positive Supply."